# EAGLE library part DSPIC33FJ128MC802 (library microcontrollers)
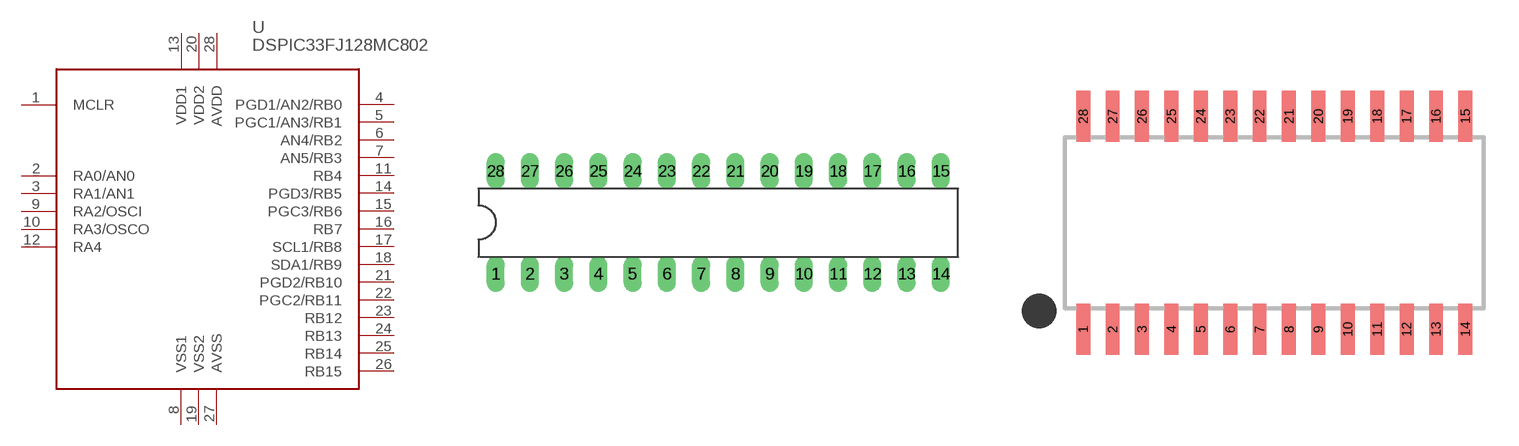
[diagram p6: symbol with the pads of DIP28; footprints DIP28, SOIC28W]

Designator prefix -

## DSPIC33FJ128MC802N  [DIP28]
1  MCLR
2  RA0/AN0
3  RA1/AN1
4  PGD1/AN2/RB0
5  PGC1/AN3/RB1
6  AN4/RB2
7  AN5/RB3
8  VSS1  pwr
9  RA2/OSCI
10  RA3/OSCO
11  RB4
12  RA4
13  VDD1  pwr
14  PGD3/RB5
15  PGC3/RB6
16  RB7
17  SCL1/RB8
18  SDA1/RB9
19  VSS2  pwr
20  VDD2  pwr
21  PGD2/RB10
22  PGC2/RB11
23  RB12
24  RB13
25  RB14
26  RB15
27  AVSS  pwr
28  AVDD  pwr

## DSPIC33FJ128MC802S  [SOIC28W]
Pads as for DIP28

## Footprint DIP28 (pad centres in mm)
Dual In Line package type P
drill 0.813 long: 1 -16.51,-3.81; 2 -13.97,-3.81; 3 -11.43,-3.81; 4 -8.89,-3.81; 5 -6.35,-3.81; 6 -3.81,-3.81; 7 -1.27,-3.81; 8 1.27,-3.81; 9 3.81,-3.81; 10 6.35,-3.81; 11 8.89,-3.81; 12 11.43,-3.81; 13 13.97,-3.81; 14 16.51,-3.81; 15 16.51,3.81; 16 13.97,3.81; 17 11.43,3.81; 18 8.89,3.81; 19 6.35,3.81; 20 3.81,3.81; 21 1.27,3.81; 22 -1.27,3.81; 23 -3.81,3.81; 24 -6.35,3.81; 25 -8.89,3.81; 26 -11.43,3.81; 27 -13.97,3.81; 28 -16.51,3.81

## Footprint SOIC28W (pad centres in mm)
Small Outline Package wide
smd 0.6 x 2.2: 1 -8.255,-4.6; 2 -6.985,-4.6; 3 -5.715,-4.6; 4 -4.445,-4.6; 5 -3.175,-4.6; 6 -1.905,-4.6; 7 -0.635,-4.6; 8 0.635,-4.6; 9 1.905,-4.6; 10 3.175,-4.6; 11 4.445,-4.6; 12 5.715,-4.6; 13 6.985,-4.6; 14 8.255,-4.6; 15 8.255,4.6; 16 6.985,4.6; 17 5.715,4.6; 18 4.445,4.6; 19 3.175,4.6; 20 1.905,4.6; 21 0.635,4.6; 22 -0.635,4.6; 23 -1.905,4.6; 24 -3.175,4.6; 25 -4.445,4.6; 26 -5.715,4.6; 27 -6.985,4.6; 28 -8.255,4.6